# EAGLE library part DWA8 (library IC-ESP)
ESP8266 Wifi module DWA8
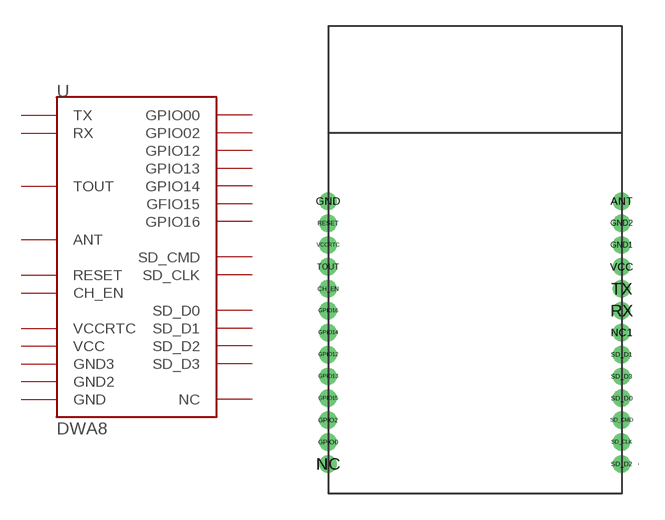
[diagram p8: symbol with the pads of DWA8; footprint DWA8]

Designator prefix -

## DWA8  [DWA8]
ANT  ANT
CH_EN  CH_EN
GND  GND
GND1  GND2
GND2  GND3
GPIO0  GPIO00
GPIO2  GPIO02
GPIO12  GPIO12
GPIO13  GPIO13
GPIO14  GPIO14
GPIO15  GFIO15
GPIO16  GPIO16
NC  NC
NC1  P$13
RESET  RESET
RX  RX
SD_CLK  SD_CLK
SD_CMD  SD_CMD
SD_D0  SD_D0
SD_D1  SD_D1
SD_D2  SD_D2
SD_D3  SD_D3
TOUT  TOUT
TX  TX
VCC  VCC
VCCRTC  VCCRTC

## Footprint DWA8 (pad centres in mm)
ESP8266 Module DWA8
drill 0.5: ANT 9,6.96; CH_EN -8.01,1.88; GND -8.01,6.96; GND1 9,4.42; GND2 9,5.69; GPIO0 -8.01,-7.01; GPIO2 -8.01,-5.74; GPIO12 -8.01,-1.93; GPIO13 -8.01,-3.2; GPIO14 -8.01,-0.66; GPIO15 -8.01,-4.47; GPIO16 -8.01,0.61; NC -8.01,-8.28; NC1 9,-0.66; RESET -8.01,5.69; RX 9,0.61; SD_CLK 9,-7.01; SD_CMD 9,-5.74; SD_D0 9,-4.47; SD_D1 9,-1.93; SD_D2 9,-8.28; SD_D3 9,-3.2; TOUT -8.01,3.15; TX 9,1.88; VCC 9,3.15; VCCRTC -8.01,4.42